# Altium schematic symbol library Switch_C&K_OS102011MA1QN1_eec.SchLib: 1 symbol
Pins are listed as number, name and electrical type; pins without a type are passive.

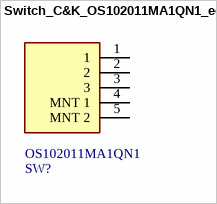
[diagram p0: symbol Switch_C&K_OS102011MA1QN1_eec]

## Switch_C&K_OS102011MA1QN1_eec
designator SW?  Part Number: OS102011MA1QN1
SWITCH SLIDE SPDT 100MA 12V; Manufacturer: C&K; helpURL: https://upverter.com/upn/revision/2b2ed0fd4d150582/; ComponentLink2Description: Datasheet; Temperature: -30°C to +70°C; Package: SW_SLIDE; Supplier 2: Mouser; Price: 0.290275964971; Supplier 1: Digi-Key; ComponentLink1URL: https://upverter.com/upn/revision/2b2ed0fd4d150582/; Supplier Part Number 2: OS102011MA1QN1; Supplier Part Number 1: CKN9559-ND; ComponentLink1Description: Upverter; ComponentLink2URL: https://www.ckswitches.com/media/1428/os.pdf; RoHS: TRUE; Mouser Part Number: OS102011MA1QN1; Temperature Range High: +70°C; Digikey Description: SWITCH SLIDE SPDT 100MA 12V; Digikey Part Number: CKN9559-ND; Lead Free: yes; Temperature Range Low: -30°C
footprint C&K_OS102011MA1QN1_0
pins: 1, 2, 3, 4 MNT 1, 5 MNT 2